# Altium integrated library DSC1001CL5-040.0000.IntLib: 1 symbol
Pins are listed as number, name and electrical type; pins without a type are passive.

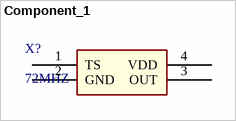
[diagram p0: symbol Component_1]

## Component_1
designator X?, comment 72MHZ
mf_part no.: DSC1001CL5-040.0000; Manufactured by: MICROCHIP
footprint OSC_DSC6083CI2A-032K768
pins: 1 TS, 2 GND, 3 OUT, 4 VDD